# Altium footprint library PcbLib1DA2.PcbLib: 20 footprints (part 1 of 2)
Each footprint in its own frame and in the unit in brackets; x right, y up, seen from the top. Pads: shape width x height; smd on the part's side, far side on the other; paste and mask are expansions set on the pad; w line width, h text height; cw(c..) or ccw(c..) is an arc to the next point about the centre after c.
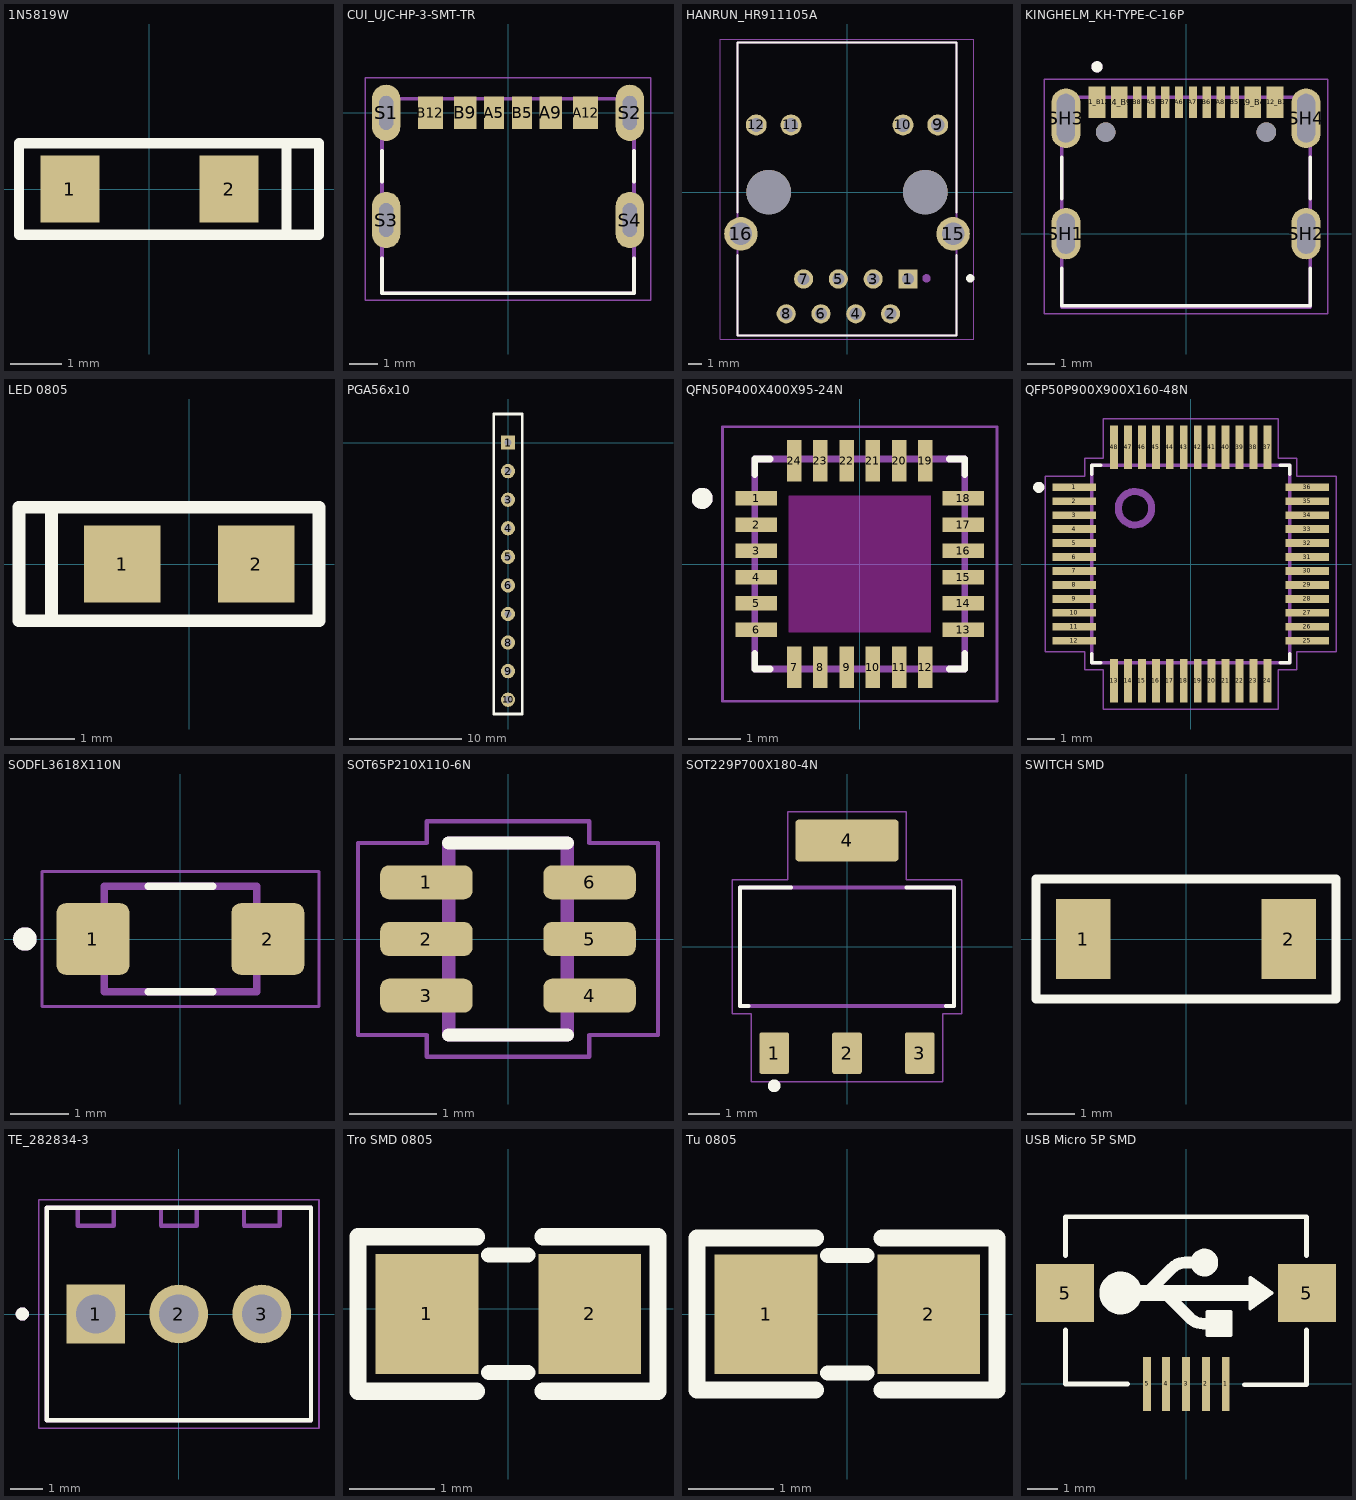
[diagram p0: the footprints below, top view; thin cyan lines are the x and y axes]

## 1N5819W [mm]
pads (2):
  rect 1.15x1.3 smd: 1(-1.55,0) 2(1.55,0)
Top Overlay:
  lines w0.2: 2.667,-0.889 2.667,0.889 ; -2.54,-0.889 3.302,-0.889 3.302,0.889 -2.54,0.889 -2.54,-0.889
3D body "1N5819HW-7-F.STEP": height 1.5, standoff -0.03, extent -1.825,-0.775 1.825,0.775

## CUI_UJC-HP-3-SMT-TR [mm]
height 3.16
pads (10):
  rect 0.7x1.15 smd: A5(-0.5,0.005) B5(0.5,0.005)
  rect 0.8x1.15 smd: A9(1.52,0.005) B9(-1.52,0.005)
  rect 0.9x1.15 smd: A12(2.75,0.005) B12(-2.75,0.005)
  oval 1x2 hole 0.5 slot 1.2 at 90 deg: S1(-4.32,0) S2(4.32,0) S3(-4.32,-3.8) S4(4.32,-3.8)
Top Overlay:
  lines w0.127: -4.47,-5.15 -4.47,-6.4 4.47,-6.4 4.47,-5.15 ; -4.47,-2.45 -4.47,-1.35 ; 4.47,-2.45 4.47,-1.35
Mechanical 13:
  lines w0.127: -4.47,-6.4 4.47,-6.4 4.47,0.5 -4.47,0.5 -4.47,-6.4
Mechanical 15:
  lines w0.05: -5.07,-6.65 5.07,-6.65 5.07,1.25 -5.07,1.25 -5.07,-6.65
3D body "step_temp.STEP": height 1.93, standoff -2.33, extent -4.47,-4.281 4.47,2.619

## HANRUN_HR911105A [mm]
pads (16):
  rect 1.398x1.398 / inner round 1.398 / far side rect 1.398x1.398 hole 0.89: 1(4.45,-6.35)
  round 1.398 hole 0.89: 2(3.18,-8.89) 3(1.91,-6.35) 4(0.64,-8.89) 5(-0.63,-6.35) 6(-1.9,-8.89) 7(-3.17,-6.35) 8(-4.44,-8.89)
  round 1.53 hole 1.02: 9(6.625,4.9) 10(4.085,4.9) 11(-4.085,4.9) 12(-6.625,4.9)
  round 2.445 hole 1.63: 15(7.745,-3.05) 16(-7.745,-3.05)
  round 3.25 hole 3.25 unplated: ""(-5.715,0) ""(5.715,0)
Top Overlay:
  circle w0.3: c9,-6.3 r0.15
  lines w0.127: -8,-4.6 -8,-10.48 8,-10.48 8,-4.6 ; -8,-1.5 -8,10.92 8,10.92 8,-1.5
Mechanical 13:
  circle w0.3: c5.8,-6.3 r0.15
  lines w0.127: -8,-10.48 8,-10.48 8,10.92 -8,10.92 -8,-10.48
Mechanical 15:
  lines w0.05: -9.25,-10.73 9.25,-10.73 9.25,11.17 -9.25,11.17 -9.25,-10.73
3D body "step_temp.STEP": height 13.5, standoff -3.05, extent -8.02,-10.38 8.02,10.92

## KINGHELM_KH-TYPE-C-16P [mm]
height 3.41
pads (18):
  rect 0.6x1.15 smd: A1_B12(-3.2,4.725) A4_B9(-2.4,4.725) A9_B4(2.4,4.725) A12_B1(3.2,4.725)
  rect 0.3x1.15 smd: A5(-1.25,4.725) A6(-0.25,4.725) A7(0.25,4.725) A8(1.25,4.725) B5(1.75,4.725) B6(0.75,4.725) B7(-0.75,4.725) B8(-1.75,4.725)
  oval 1.05x1.85 hole 0.65 slot 1.45 at 90 deg: SH1(-4.32,0) SH2(4.32,0)
  oval 1.05x2.15 hole 0.65 slot 1.75 at 90 deg: SH3(-4.32,4.15) SH4(4.32,4.15)
  round 0.7 hole 0.7 unplated: ""(-2.89,3.65) ""(2.89,3.65)
Top Overlay:
  circle w0.2: c-3.2,6 r0.1
  lines w0.127: -4.47,-1.25 -4.47,-2.6 4.47,-2.6 4.47,-1.25 ; -4.47,1.25 -4.47,2.75 ; 4.47,1.25 4.47,2.75
Mechanical 13:
  circle w0.2: c-3.2,6 r0.1
  lines w0.127: -4.47,-2.6 -4.47,-2.64 4.47,-2.64 4.47,-2.6 ; -4.47,-2.6 -4.47,4.91 4.47,4.91 4.47,-2.6 ; -4.47,-2.6 4.47,-2.6
Mechanical 15:
  lines w0.05: -5.095,-2.89 -5.095,5.55 5.095,5.55 5.095,-2.89 -5.095,-2.89
3D body "step_temp.STEP": height 3.41, standoff -1.1, extent -4.47,-2.635 4.47,5.175

## LED 0805 [mm]
pads (2):
  rect 1.2x1.2 smd: 1(-1.05,0) 2(1.05,0)
Top Overlay:
  lines w0.2: -2.159,-0.889 -2.159,0.889 ; -2.667,-0.889 -2.667,-0.133 -2.667,0.889 2.032,0.889 2.032,-0.889 -2.667,-0.889
3D body "V0805-SMD-R -Red---3DModel-STEP-468060.STEP": height 0.8, standoff 0, extent -1,-0.625 1,0.625

## PGA56x10 [mm]
pads (10):
  rect 1.27x1.27 hole 0.635: 1(0,0)
  round 1.27 hole 0.635: 2(0,-2.54) 3(0,-5.08) 4(0,-7.62) 5(0,-10.16) 6(0,-12.7) 7(0,-15.24) 8(0,-17.78) 9(0,-20.32) 10(0,-22.86)
Top Overlay:
  lines w0.254: -1.27,-24.13 -1.27,2.54 1.27,2.54 1.27,-24.13 -1.27,-24.13

## QFN50P400X400X95-24N [mm]
height 0.95
pads (24):
  rect 0.79x0.28 smd: 1(-1.97,1.25) 2(-1.97,0.75) 3(-1.97,0.25) 4(-1.97,-0.25) 5(-1.97,-0.75) 6(-1.97,-1.25) 13(1.97,-1.25) 14(1.97,-0.75) 15(1.97,-0.25) 16(1.97,0.25) 17(1.97,0.75) 18(1.97,1.25)
  rect 0.28x0.79 smd: 7(-1.25,-1.97) 8(-0.75,-1.97) 9(-0.25,-1.97) 10(0.25,-1.97) 11(0.75,-1.97) 12(1.25,-1.97) 19(1.25,1.97) 20(0.75,1.97) 21(0.25,1.97) 22(-0.25,1.97) 23(-0.75,1.97) 24(-1.25,1.97)
Top Overlay:
  circle w0.2: c-3,1.25 r0.1
  lines w0.127: -2,-1.705 -2,-2 -1.705,-2 ; -2,1.705 -2,2 -1.705,2 ; 1.705,-2 2,-2 2,-1.705 ; 1.705,2 2,2 2,1.705
Keep-Out Layer:
  region: 1.35,-1.3 -1.35,-1.3 -1.35,1.3 1.35,1.3
Mechanical 13:
  circle w0.2: c-3,1.25 r0.1
  lines w0.127: -2,-2 -2,2 2,2 2,-2 -2,-2
Mechanical 15:
  lines w0.05: -2.615,-2.615 -2.615,2.615 2.615,2.615 2.615,-2.615 -2.615,-2.615
3D body "step_temp.STEP": height 0.93, standoff -0.02, extent -2,-2 2,2

## QFP50P900X900X160-48N [mm]
pads (48):
  rect 1.56x0.28 smd: 1(-4.18,2.75) 2(-4.18,2.25) 3(-4.18,1.75) 4(-4.18,1.25) 5(-4.18,0.75) 6(-4.18,0.25) 7(-4.18,-0.25) 8(-4.18,-0.75) 9(-4.18,-1.25) 10(-4.18,-1.75) 11(-4.18,-2.25) 12(-4.18,-2.75) 25(4.18,-2.75) 26(4.18,-2.25) 27(4.18,-1.75) 28(4.18,-1.25) 29(4.18,-0.75) 30(4.18,-0.25) 31(4.18,0.25) 32(4.18,0.75) 33(4.18,1.25) 34(4.18,1.75) 35(4.18,2.25) 36(4.18,2.75)
  rect 0.28x1.56 smd: 13(-2.75,-4.18) 14(-2.25,-4.18) 15(-1.75,-4.18) 16(-1.25,-4.18) 17(-0.75,-4.18) 18(-0.25,-4.18) 19(0.25,-4.18) 20(0.75,-4.18) 21(1.25,-4.18) 22(1.75,-4.18) 23(2.25,-4.18) 24(2.75,-4.18) 37(2.75,4.18) 38(2.25,4.18) 39(1.75,4.18) 40(1.25,4.18) 41(0.75,4.18) 42(0.25,4.18) 43(-0.25,4.18) 44(-0.75,4.18) 45(-1.25,4.18) 46(-1.75,4.18) 47(-2.25,4.18) 48(-2.75,4.18)
Top Overlay:
  circle w0.2: c-5.45,2.75 r0.1
  lines w0.127: -3.55,-3.22 -3.55,-3.55 -3.22,-3.55 ; -3.55,3.22 -3.55,3.55 -3.22,3.55 ; 3.22,-3.55 3.55,-3.55 3.55,-3.22 ; 3.22,3.55 3.55,3.55 3.55,3.22
Mechanical 13:
  drawing of 53 lines, arcs and shapes, not listed
Mechanical 15:
  lines w0.05: -5.21,-3.14 -5.21,3.14 -3.8,3.14 -3.8,3.8 -3.14,3.8 -3.14,5.21 3.14,5.21 3.14,3.8 3.8,3.8 3.8,3.14 5.21,3.14 5.21,-3.14 3.8,-3.14 3.8,-3.8 3.14,-3.8 3.14,-5.21 -3.14,-5.21 -3.14,-3.8 -3.8,-3.8 -3.8,-3.14 -5.21,-3.14
3D body "User Library-WIZNET_W5500.STEP": height 1.6, standoff 0, extent -4.504,-4.475 4.496,4.525

## SODFL3618X110N [mm]
pads (2):
  rrect25% 1.24x1.22 smd: 1(-1.49,0) 2(1.49,0)
Top Overlay:
  circle w0.2: c-2.65,0 r0.1
  lines w0.127: -0.55,-0.9 0.55,-0.9 ; -0.55,0.9 0.55,0.9
Mechanical 13:
  circle w0.2: c-2.65,0 r0.1
  lines w0.127: -1.3,-0.9 -1.3,0.9 1.3,0.9 1.3,-0.9 -1.3,-0.9
Mechanical 15:
  lines w0.05: -2.36,-1.15 -2.36,1.15 2.36,1.15 2.36,-1.15 -2.36,-1.15
3D body "step_temp.STEP": height 1.1, standoff 0, extent -1.8,-0.9 1.8,0.9

## SOT65P210X110-6N [mm]
pads (6):
  rrect50% 1.06x0.39 smd: 1(-0.935,0.65) 2(-0.935,0) 3(-0.935,-0.65) 4(0.935,-0.65) 5(0.935,0) 6(0.935,0.65)
Top Overlay:
  lines w0.152: -0.68,-1.1 0.68,-1.1 ; -0.68,1.1 0.68,1.1
Mechanical 13:
  lines w0.152: -0.68,-1.1 0.68,-1.1 0.68,1.1 -0.68,1.1 -0.68,-1.1
Mechanical 15:
  lines w0.05: -1.72,-1.1 -0.93,-1.1 -0.93,-1.35 0.93,-1.35 0.93,-1.1 1.72,-1.1 1.72,1.1 0.93,1.1 0.93,1.35 -0.93,1.35 -0.93,1.1 -1.72,1.1 -1.72,-1.1
3D body "step_temp.STEP": height 1.1, standoff 0, extent -1.05,-1 1.05,1

## SOT229P700X180-4N [mm]
pads (4):
  rrect15% 0.93x1.31 smd: 1(-2.29,-3.345) 2(0,-3.345) 3(2.29,-3.345)
  rrect15% 3.24x1.31 smd: 4(0,3.345)
Top Overlay:
  circle w0.2: c-2.29,-4.373 r0.1
  lines w0.127: -3.1,-1.86 -3.36,-1.86 -3.36,1.86 -1.76,1.86 ; 1.87,1.86 3.36,1.86 3.36,-1.86 3.11,-1.86
Mechanical 13:
  lines w0.127: -3.36,-1.86 -3.36,1.86 3.36,1.86 3.36,-1.86 -3.36,-1.86
Mechanical 15:
  lines w0.05: -3.61,-2.11 -3.61,2.11 -1.87,2.11 -1.87,4.25 1.87,4.25 1.87,2.11 3.61,2.11 3.61,-2.11 3.01,-2.11 3.01,-4.25 -3.01,-4.25 -3.01,-2.11 -3.61,-2.11
3D body "step_temp.STEP": height 1.8, standoff 0, extent -3.15,-3.571 3.15,3.429

## SWITCH SMD [mm]
pads (2):
  rect 1.15x1.7 smd: 1(-2.175,0) 2(2.175,0)
Top Overlay:
  lines w0.2: -3.175,-1.27 3.175,-1.27 3.175,1.27 -3.175,1.27 -3.175,1.225 -3.175,-1.27
3D body "User Library-Pushbutton3x4x2.STEP": height 2, standoff 0, extent -2.45,-1.45 2.45,1.45

## TE_282834-3 [mm]
height 10
pads (3):
  rect 1.8x1.8 / inner round 1.8 / far side rect 1.8x1.8 hole 1.2: 1(-2.54,0)
  round 1.8 hole 1.2: 2(0,0) 3(2.54,0)
Top Overlay:
  circle w0.2: c-4.79,0 r0.1
  lines w0.127: -4.04,-3.25 4.04,-3.25 4.04,3.25 -4.04,3.25 -4.04,-3.25
Mechanical 13:
  circle w0.2: c-4.79,0 r0.1
  lines w0.127: -3.09,3.2 -3.09,2.7 -1.99,2.7 -1.99,3.2 ; -0.55,3.2 -0.55,2.7 0.55,2.7 0.55,3.2 ; 1.99,3.2 1.99,2.7 3.09,2.7 3.09,3.2 ; -4.04,-3.25 4.04,-3.25 4.04,3.25 -4.04,3.25 -4.04,-3.25
Mechanical 15:
  lines w0.05: -4.29,-3.5 -4.29,3.5 4.29,3.5 4.29,-3.5 -4.29,-3.5
3D body "step_temp.STEP": height 10, standoff -3.4, extent -4.04,-3.25 4.04,3.25

## Tro SMD 0805 [mm]
pads (2):
  rect 1.2x1.4 smd: 1(-0.946,-0.061) 2(0.954,-0.061)
Top Overlay:
  lines w0.178: -0.224,-0.747 0.233,-0.747 ; -0.224,0.625 0.233,0.625
  lines w0.2: -0.367,-0.965 -1.75,-0.965 -1.75,0.838 -0.367,0.838 ; 0.408,-0.965 1.75,-0.965 1.75,0.838 0.408,0.838
3D body "Tro 0805.STEP": height 0.53, standoff 0, extent -1.562,-0.763 1.438,0.637

## Tu 0805 [mm] "Compoment SMD 80x50mil"
height 1.27
pads (2):
  rect 1.2x1.4 smd: 1(-0.946,-0.003) 2(0.954,-0.003)
Top Overlay:
  lines w0.178: -0.224,-0.689 0.233,-0.689 ; -0.224,0.682 0.233,0.682
  lines w0.2: -0.367,-0.889 -1.753,-0.889 -1.753,0.889 -0.367,0.889 ; 0.408,-0.889 1.753,-0.889 1.753,0.889 0.408,0.889
3D body "SW3dPS-smt_resistor_packages.STEP": height 0.61, standoff -0.01, extent -1.006,-0.638 1.014,0.632

## USB Micro 5P SMD [mil]
height 153.54
pads (7):
  rect 10x70 smd: 1(51.18,0) 2(25.59,0) 3(0,0) 4(-25.59,0) 5(-50,0)
  rect 74.8x74.8 smd: 5(-155.51,116.84) 5(155.51,116.84)
Top Overlay:
  circle w20: c23.56,156.21 r7.87
  circle w35: c-84.07,117 r10
  region: 57.03,62.87 27.5,62.87 27.5,92.39 57.03,92.39
  region: 110.18,117 82.62,97.31 82.62,136.69
  lines w5: 27.5,62.87 57.03,62.87 57.03,92.39 27.5,92.39 27.5,62.87 ; 82.62,97.31 82.62,136.69 110.18,117 82.62,97.31
  lines w6: -155,69.8 -155,0 -75,0 ; -155,164.84 -155,215 155,215 155,164.84 ; 75,-1 155,-1 155,69.8
  lines w15: -52.85,114.46 -18.48,148.83 cw(c-0.65,131) -0.65,156.21 22.5,156.21 ; -24.7,114.54 4.83,85.01 ccw(c22.66,102.84) 22.66,77.63 42.5,77.63
  lines w20: -82.5,117 92.5,117
3D body "Micro USB.STP": height 106.7, standoff -9.04, extent -156.58,4.51 157.59,218.29